# EAGLE library part ESP07 (library connectors)
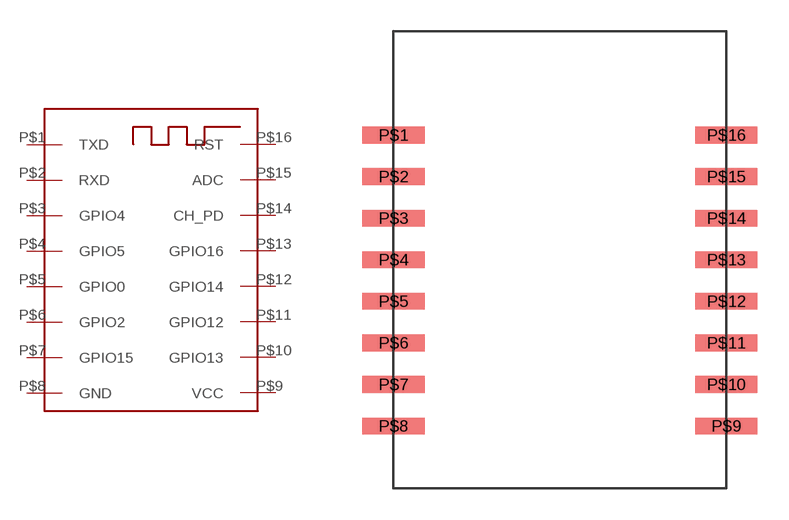
[diagram p3: symbol with the pads of ESP07; footprint ESP07]

Designator prefix -

## ESP07  [ESP07]
P$1  TXD
P$2  RXD
P$3  GPIO4
P$4  GPIO5
P$5  GPIO0
P$6  GPIO2
P$7  GPIO15
P$8  GND
P$9  VCC
P$10  GPIO13
P$11  GPIO12
P$12  GPIO14
P$13  GPIO16
P$14  CH_PD
P$15  ADC
P$16  RST

## Footprint ESP07 (pad centres in mm)
smd 3 x 0.8: P$1 0,17; P$2 0,15; P$3 0,13; P$4 0,11; P$5 0,9; P$6 0,7; P$7 0,5; P$8 0,3; P$9 16,3; P$10 16,5; P$11 16,7; P$12 16,9; P$13 16,11; P$14 16,13; P$15 16,15; P$16 16,17